# EAGLE library part MUP-U513 (library mup-u513)
Type AB Micro USB Connector Datasheet <https://www.evelta.com/content/datasheets/U513%20with%20post%20(micro%20female%20USB%20Connector)%20Drawing.pdf>
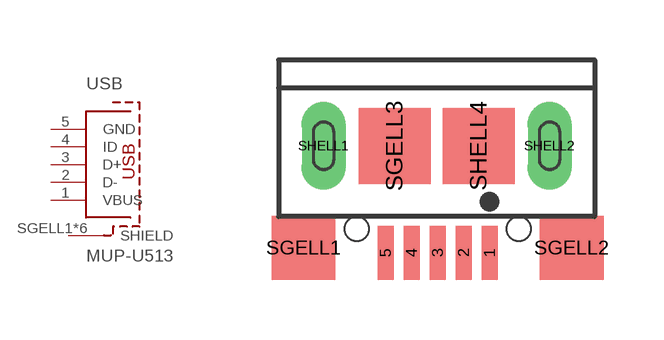
[diagram p0: symbol with the pads of MUP-U513; footprint MUP-U513]

Designator prefix USB

## MUP-U513  [MUP-U513]
1  VBUS  pas
2  D-  pas
3  D+  pas
4  ID  pas
5  GND  pas
SGELL1  SHIELD  pas
SGELL2  SHIELD  pas
SGELL3  SHIELD  pas
SHELL1  SHIELD  pas
SHELL2  SHIELD  pas
SHELL4  SHIELD  pas

## Footprint MUP-U513 (pad centres in mm)
MUP-U513
smd 0.4 x 1.35: 1 1.325,0.675; 2 0.675,0.675; 3 0.025,0.675; 4 -0.625,0.675; 5 -1.275,0.675
smd 1.6 x 1.6: SGELL1 -3.325,0.8; SGELL2 3.375,0.8
smd 1.8 x 1.9: SGELL3 -1.05,3.35; SHELL4 1.05,3.35
drill 0.5 pad 1.1 long: SHELL1 -2.825,3.35; SHELL2 2.825,3.35
hole 0.6 at 2.05,1.275
hole 0.6 at -2,1.275